# EAGLE library part PIC12F675 (library 000001)
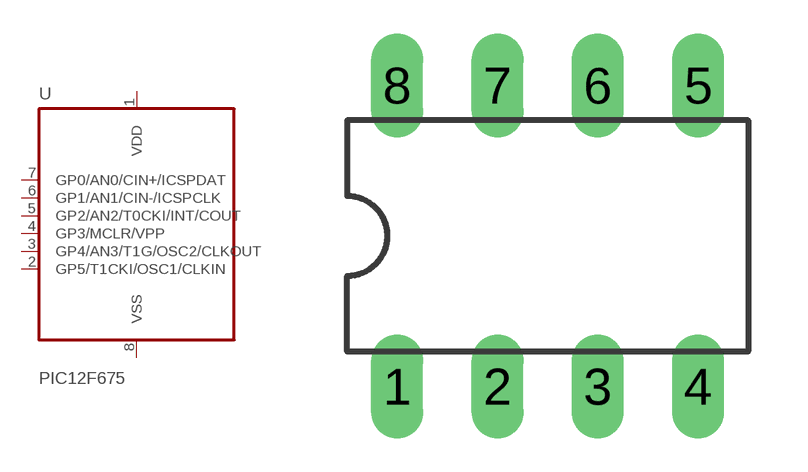
[diagram p49: symbol with the pads of DIL08; footprint DIL08]

Designator prefix -

## PIC12F675  [DIL08]
1  VDD  pwr
2  GP5/T1CKI/OSC1/CLKIN
3  GP4/AN3/T1G/OSC2/CLKOUT
4  GP3/MCLR/VPP
5  GP2/AN2/T0CKI/INT/COUT
6  GP1/AN1/CIN-/ICSPCLK
7  GP0/AN0/CIN+/ICSPDAT
8  VSS  pwr

## Footprint DIL08 (pad centres in mm)
Dual In Line Package
drill 0.813 long: 1 -3.81,-3.81; 2 -1.27,-3.81; 3 1.27,-3.81; 4 3.81,-3.81; 5 3.81,3.81; 6 1.27,3.81; 7 -1.27,3.81; 8 -3.81,3.81